# EAGLE library part HDR_1X10 (library OneDollarBoard.com.1.004.r1)
IPN: 8 LCSC: C350306
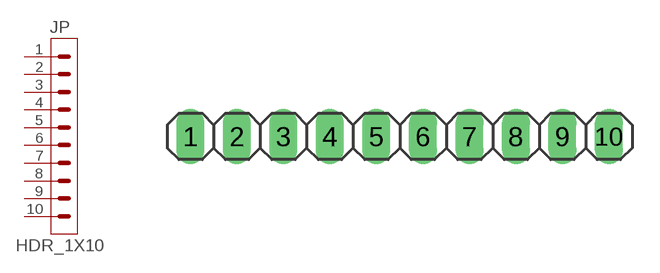
[diagram p2: symbol with the pads of 1X10; footprint 1X10]

Designator prefix JP

## HDR_1X10 (CATEGORY: Connector, Pin Header; DATASHEET: https://www.lcsc.com/datasheet/C350306.pdf; DESCRIPTION: Header-Straight-10 Position; IPN: 8; LCSC_PART: C350306; MANUFACTURER: HOAUC; MFR_PART: 2685Y-110CNG1SNA01; ODB_REV: 1.004.R1; PACKAGE: TH_1X10_2.54MM; PACKAGE_TYPE: Through Hole; PITCH: 0.100" (2.54mm); SUBCATEGORY: Headers; TYPE: Male Pins; VALUE: Pin Header 1x10 2.54mm)  [1X10]
1  1  pas
2  2  pas
3  3  pas
4  4  pas
5  5  pas
6  6  pas
7  7  pas
8  8  pas
9  9  pas
10  10  pas

## Footprint 1X10 (pad centres in mm)
Pin Header
drill 1.016 long: 1 -11.43,0; 2 -8.89,0; 3 -6.35,0; 4 -3.81,0; 5 -1.27,0; 6 1.27,0; 7 3.81,0; 8 6.35,0; 9 8.89,0; 10 11.43,0